# Altium footprint library Resistor.PcbLib: 4 footprints
Each footprint in its own frame and in the unit in brackets; x right, y up, seen from the top. Pads: shape width x height; smd on the part's side, far side on the other; paste and mask are expansions set on the pad; w line width, h text height; cw(c..) or ccw(c..) is an arc to the next point about the centre after c.
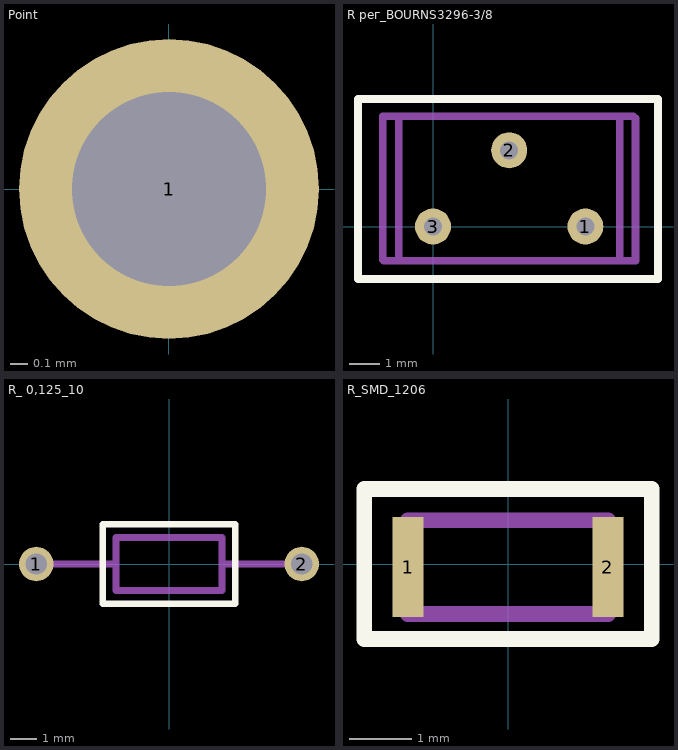
[diagram p0: the footprints below, top view; thin cyan lines are the x and y axes]

## Point [mm]
pads (1):
  round 1.7 hole 1.1 unplated: 1(0,0)

## R рег_BOURNS3296-3/8 [mm]
pads (3):
  round 1.2 hole 0.6: 1(5.08,0) 2(2.54,2.54) 3(0,0)
Top Overlay:
  lines w0.254: -2.5,-1.75 -2.5,4.25 7.5,4.25 7.5,-1.75 -2.5,-1.75
Mechanical 1:
  lines w0.254: -1.68,-1.1 -1.68,3.68 -1.14,3.68 ; -1.64,-1.14 -1.14,-1.14 ; 6.68,3.68 6.22,3.68 ; 6.75,3.61 6.75,-1.14 6.22,-1.14 ; -1.14,-1.14 -1.14,3.68 ; -1.14,-1.14 6.22,-1.14 ; -1.14,3.68 6.22,3.68 ; 6.22,-1.14 6.22,3.68

## R_ 0,125_10 [mm]
pads (2):
  round 1.3 hole 0.8 unplated: 1(-5,0) 2(5,0)
Top Overlay:
  lines w0.254: -2.5,-1.5 2.5,-1.5 2.5,1.5 -2.5,1.5 -2.5,-1.5
Mechanical 1:
  lines w0.254: -5,0 -2,0 ; 2,0 5,0 ; -2,-1 -2,1 2,1 2,-1 -2,-1

## R_SMD_1206 [mm]
pads (2):
  rect 0.5x1.6 smd: 1(-1.6,-0.05) 2(1.6,-0.05)
Top Overlay:
  lines w0.254: -2.3,-1.2 -2.3,1.2 2.3,1.2 2.3,-1.2 -2.3,-1.2
Mechanical 1:
  lines w0.254: -1.6,-0.8 -1.6,0.7 1.6,0.7 1.6,-0.8 -1.6,-0.8